# Altium footprint library PcbLib1.PcbLib: 23 footprints (part 1 of 2)
Each footprint in its own frame and in the unit in brackets; x right, y up, seen from the top. Pads: shape width x height; smd on the part's side, far side on the other; paste and mask are expansions set on the pad; w line width, h text height; cw(c..) or ccw(c..) is an arc to the next point about the centre after c.
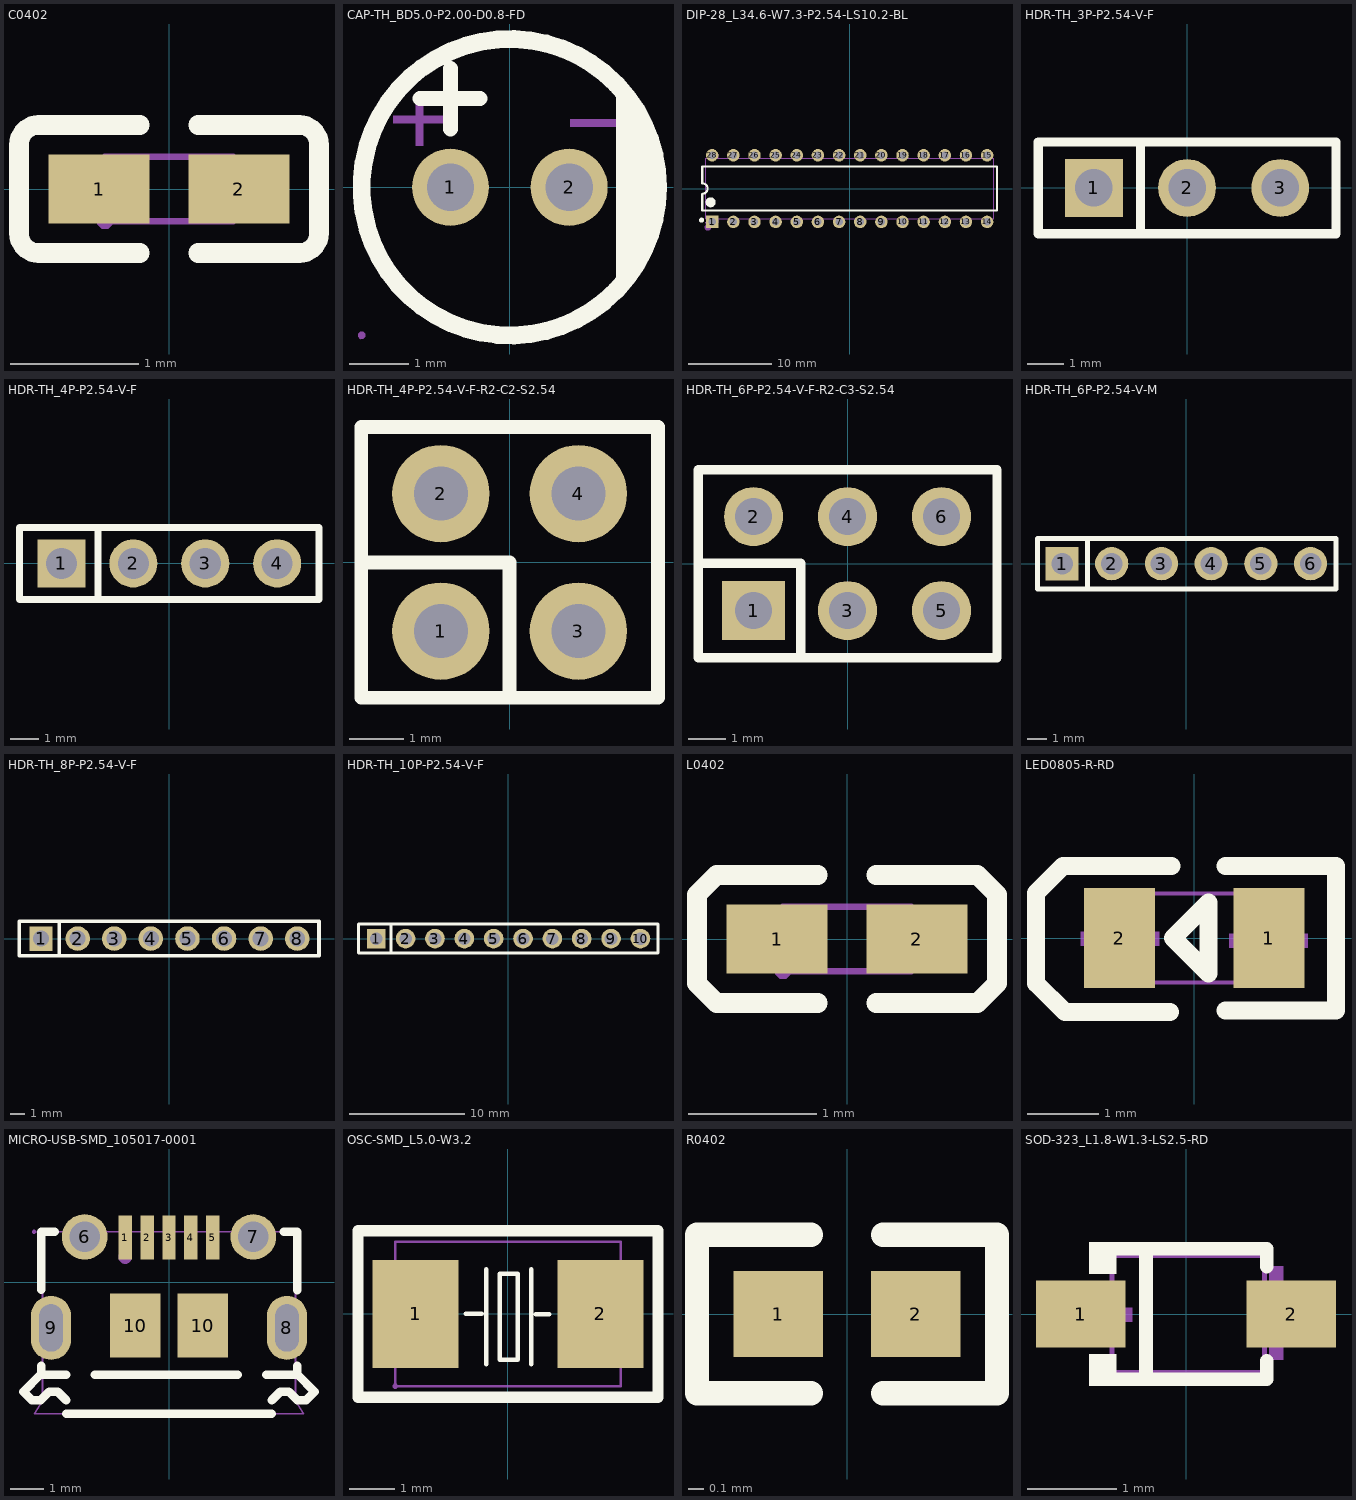
[diagram p0: the footprints below, top view; thin cyan lines are the x and y axes]

## C0402 [mm]
pads (2):
  rect 0.79x0.54 smd paste-100 mask+0.051: 1(-0.545,0) 2(0.545,0)
Top Overlay:
  lines w0.152: -0.226,-0.499 -1.016,-0.499 cw(c-1.016,-0.346) -1.169,-0.346 -1.169,0.346 cw(c-1.016,0.346) -1.016,0.499 -0.226,0.499 ; 0.226,-0.499 1.016,-0.499 ccw(c1.016,-0.346) 1.169,-0.346 1.169,0.346 ccw(c1.016,0.346) 1.016,0.499 0.226,0.499
Top Paste:
  region: -0.18,0.225 -0.18,-0.225 -0.25,-0.275 -0.73,-0.275 -0.78,-0.225 -0.78,0.225 -0.73,0.275 -0.25,0.275
  region: 0.78,0.225 0.78,-0.225 0.73,-0.275 0.25,-0.275 0.18,-0.225 0.18,0.225 0.25,0.275 0.73,0.275
Mechanical 15:
  region: -0.44,-0.25 -0.44,-0.225 -0.475,-0.19 -0.525,-0.19 -0.56,-0.225 -0.56,-0.25 -0.56,-0.275 -0.525,-0.31 -0.475,-0.31 -0.44,-0.275
  region: -0.5,-0.25 -0.5,0.25 -0.25,0.25 -0.25,-0.25
  region: 0.5,-0.25 0.5,0.25 0.25,0.25 0.25,-0.25
  lines w0.051: -0.5,-0.25 -0.5,0.25 0.5,0.25 0.5,-0.25 -0.5,-0.25

## CAP-TH_BD5.0-P2.00-D0.8-FD [mm]
pads (2):
  round 1.3 hole 0.8: 1(-1,0) 2(1,0)
Top Overlay:
  circle w0.3: c0,0 r2.5
  region: 1.794,1.651 1.961,1.491 2.225,1.111 2.407,0.685 2.5,0.231 2.5,-0.231 2.407,-0.685 2.225,-1.111 1.961,-1.491 1.794,-1.651
  lines w0.254: -1.516,1.5 -0.5,1.5 ; -1,0.984 -1,2
Mechanical 6:
  region: -1.969,1.206 -1.08,1.206 -1.08,1.079 -1.969,1.079
  region: -1.588,0.699 -1.588,1.587 -1.461,1.587 -1.46,0.699
  region: 1.016,1.143 1.905,1.143 1.905,1.016 1.016,1.016
Mechanical 15:
  region: -2.44,-2.5 -2.44,-2.475 -2.475,-2.44 -2.525,-2.44 -2.56,-2.475 -2.56,-2.5 -2.56,-2.525 -2.525,-2.56 -2.475,-2.56 -2.44,-2.525 -2.44,-2.5
  region: -0.7,0 -0.701,0.059 -0.748,0.167 -0.832,0.25 -0.941,0.294 -1.059,0.294 -1.168,0.25 -1.252,0.167 -1.299,0.059 -1.3,0 -1.299,-0.059 -1.252,-0.167 -1.168,-0.25 -1.059,-0.294 -0.941,-0.294 -0.832,-0.25 -0.748,-0.167 -0.701,-0.059 -0.7,0
  region: 1.3,0 1.299,0.059 1.252,0.167 1.168,0.25 1.059,0.294 0.941,0.294 0.832,0.25 0.748,0.167 0.701,0.059 0.7,0 0.701,-0.059 0.748,-0.167 0.832,-0.25 0.941,-0.294 1.059,-0.294 1.168,-0.25 1.252,-0.167 1.299,-0.059 1.3,0
  lines w0.051: 0,-2.5 cw(c0,0) -2.5,0 cw(c0,0) 0,2.5 cw(c0,0) 2.5,0 ; 0,-2.5 ccw(c0,0) 2.5,0 ; 0,-2.5 0,-2.5 ; 2.5,0 2.5,0

## DIP-28_L34.6-W7.3-P2.54-LS10.2-BL [mm]
pads (28):
  rect 1.5x1.5 hole 0.9: 1(-16.51,-4)
  round 1.5 hole 0.9: 2(-13.97,-4) 3(-11.43,-4) 4(-8.89,-4) 5(-6.35,-4) 6(-3.81,-4) 7(-1.27,-4) 8(1.27,-4) 9(3.81,-4) 10(6.35,-4) 11(8.89,-4) 12(11.43,-4) 13(13.97,-4) 14(16.51,-4) 15(16.51,4) 16(13.97,4) 17(11.43,4) 18(8.89,4) 19(6.35,4) 20(3.81,4) 21(1.27,4) 22(-1.27,4) 23(-3.81,4) 24(-6.35,4) 25(-8.89,4) 26(-11.43,4) 27(-13.97,4) 28(-16.51,4)
Top Overlay:
  lines w0.254: -17.701,-0.635 ccw(c-17.701,0) -17.701,0.635 ; -17.7,-0.635 -17.7,-2.65 17.7,-2.65 17.7,2.65 -17.7,2.65 -17.7,0.635
  lines w0.3: -17.94,-3.8 ccw(c-17.79,-3.799) -17.64,-3.799 ccw(c-17.79,-3.799) -17.94,-3.797
  lines w0.6: -17,-1.651 ccw(c-16.7,-1.648) -16.4,-1.648 ccw(c-16.7,-1.648) -17,-1.646
Mechanical 6:
  circle w0.4: c-17.026,-4.657 r0.2
Mechanical 15:
  drawing of 61 lines, arcs and shapes, not listed

## HDR-TH_3P-P2.54-V-F [mil]
pads (3):
  rect 62x62 hole 40.16: 1(-100,0)
  round 62 hole 40.16: 2(0,0) 3(100,0)
Top Overlay:
  lines w10: -50,-49.21 -50,49.21 ; -159.84,-49.21 -159.84,49.21 159.84,49.21 159.84,-49.21 -159.84,-49.21
Mechanical 15:
  region: 87.4,4.92 112.6,4.92 112.6,-4.92 87.4,-4.92
  region: -12.6,4.92 12.6,4.92 12.6,-4.92 -12.6,-4.92
  region: -112.6,4.92 -87.4,4.92 -87.4,-4.92 -112.6,-4.92
  region: -157.48,-49.21 -157.48,-48.23 -158.86,-46.85 -160.82,-46.85 -162.2,-48.24 -162.2,-49.22 -162.2,-50.19 -160.82,-51.58 -158.86,-51.58 -157.48,-50.19
  lines w2: -159.84,-49.21 159.84,-49.21 159.84,49.21 -159.84,49.21 -159.84,-49.21

## HDR-TH_4P-P2.54-V-F [mm]
pads (4):
  rect 1.7x1.7 hole 1.1: 1(-3.81,0)
  round 1.7 hole 1.1: 2(-1.27,0) 3(1.27,0) 4(3.81,0)
Top Overlay:
  lines w0.254: -2.516,-1.27 -2.516,1.27 ; -5.29,-1.27 -5.29,1.27 5.29,1.27 5.29,-1.27 -5.29,-1.27
Mechanical 15:
  region: -4.13,0.15 -3.49,0.15 -3.49,-0.15 -4.13,-0.15
  region: -1.59,0.15 -0.95,0.15 -0.95,-0.15 -1.59,-0.15
  region: 0.95,0.15 1.59,0.15 1.59,-0.15 0.95,-0.15
  region: 3.49,0.15 4.13,0.15 4.13,-0.15 3.49,-0.15
  region: -5.19,-1.25 -5.19,-1.225 -5.225,-1.19 -5.275,-1.19 -5.31,-1.225 -5.31,-1.25 -5.31,-1.275 -5.275,-1.31 -5.225,-1.31 -5.19,-1.275
  lines w0.051: -5.25,-1.25 -5.25,1.25 5.25,1.25 5.25,-1.25 -5.25,-1.25

## HDR-TH_4P-P2.54-V-F-R2-C2-S2.54 [mm]
pads (4):
  round 1.8 hole 1: 1(-1.27,-1.27) 2(-1.27,1.27) 3(1.27,-1.27) 4(1.27,1.27)
Top Overlay:
  lines w0.254: -2.667,0 0,0 0,-2.413 ; -2.74,-2.5 -2.74,2.5 2.74,2.5 2.74,-2.5 -2.74,-2.5
Mechanical 15:
  region: 0.95,1.47 1.59,1.47 1.59,1.07 0.95,1.07
  region: 0.95,-1.07 1.59,-1.07 1.59,-1.47 0.95,-1.47
  region: -1.59,1.47 -0.95,1.47 -0.95,1.07 -1.59,1.07
  region: -1.59,-1.07 -0.95,-1.07 -0.95,-1.47 -1.59,-1.47
  region: -2.68,-2.5 -2.68,-2.475 -2.715,-2.44 -2.765,-2.44 -2.8,-2.475 -2.8,-2.5 -2.8,-2.525 -2.765,-2.56 -2.715,-2.56 -2.68,-2.525
  lines w0.051: -2.74,-2.5 2.74,-2.5 2.74,2.5 -2.74,2.5 -2.74,-2.5

## HDR-TH_6P-P2.54-V-F-R2-C3-S2.54 [mm]
pads (6):
  rect 1.7x1.6 hole 1: 1(-2.54,-1.27)
  round 1.6 hole 1: 2(-2.54,1.27) 3(0,-1.27) 4(0,1.27) 5(2.54,-1.27) 6(2.54,1.27)
Top Overlay:
  lines w0.254: -4.04,0.007 -1.27,0.007 -1.27,-2.54 ; -4.04,-2.54 -4.04,2.54 4.04,2.54 4.04,-2.54 -4.04,-2.54
Mechanical 15:
  region: -2.86,-1.07 -2.22,-1.07 -2.22,-1.47 -2.86,-1.47
  region: -2.86,1.47 -2.22,1.47 -2.22,1.07 -2.86,1.07
  region: -0.32,-1.07 0.32,-1.07 0.32,-1.47 -0.32,-1.47
  region: -0.32,1.47 0.32,1.47 0.32,1.07 -0.32,1.07
  region: 2.22,-1.07 2.86,-1.07 2.86,-1.47 2.22,-1.47
  region: 2.22,1.47 2.86,1.47 2.86,1.07 2.22,1.07
  region: -3.95,-2.5 -3.95,-2.475 -3.985,-2.44 -4.035,-2.44 -4.07,-2.475 -4.07,-2.5 -4.07,-2.525 -4.035,-2.56 -3.985,-2.56 -3.95,-2.525
  lines w0.051: -4.01,-2.5 4.01,-2.5 4.01,2.5 -4.01,2.5 -4.01,-2.5

## HDR-TH_6P-P2.54-V-M [mm]
pads (6):
  rect 1.7x1.7 hole 1.1: 1(-6.35,0)
  round 1.7 hole 1.1: 2(-3.81,0) 3(-1.27,0) 4(1.27,0) 5(3.81,0) 6(6.35,0)
Top Overlay:
  lines w0.254: -5.056,-1.27 -5.056,1.27 ; -7.6,-1.3 -7.6,1.3 7.65,1.3 7.65,-1.3 -7.6,-1.3
Mechanical 15:
  region: -6.67,0.32 -6.03,0.32 -6.03,-0.32 -6.67,-0.32
  region: -4.13,0.32 -3.49,0.32 -3.49,-0.32 -4.13,-0.32
  region: -1.59,0.32 -0.95,0.32 -0.95,-0.32 -1.59,-0.32
  region: 0.95,0.32 1.59,0.32 1.59,-0.32 0.95,-0.32
  region: 3.49,0.32 4.13,0.32 4.13,-0.32 3.49,-0.32
  region: 6.03,0.32 6.67,0.32 6.67,-0.32 6.03,-0.32
  region: -7.56,-1.27 -7.56,-1.245 -7.595,-1.21 -7.645,-1.21 -7.68,-1.245 -7.68,-1.27 -7.68,-1.295 -7.645,-1.33 -7.595,-1.33 -7.56,-1.295
  lines w0.051: -7.62,-1.27 7.62,-1.27 7.62,1.27 -7.62,1.27 -7.62,-1.27

## HDR-TH_8P-P2.54-V-F [mm]
pads (8):
  rect 1.575x1.7 hole 1.1: 1(-8.89,0)
  round 1.7 hole 1.1: 2(-6.35,0) 3(-3.81,0) 4(-1.27,0) 5(1.27,0) 6(3.81,0) 7(6.35,0) 8(8.89,0)
Top Overlay:
  lines w0.254: -7.62,-1.143 -7.62,1.143 ; -10.4,-1.2 -10.4,1.2 10.4,1.2 10.4,-1.2 -10.4,-1.2
Mechanical 15:
  region: 8.59,0.2 9.19,0.2 9.19,-0.2 8.59,-0.2
  region: 6.05,0.2 6.65,0.2 6.65,-0.2 6.05,-0.2
  region: 3.51,0.2 4.11,0.2 4.11,-0.2 3.51,-0.2
  region: 0.97,0.2 1.57,0.2 1.57,-0.2 0.97,-0.2
  region: -1.57,0.2 -0.97,0.2 -0.97,-0.2 -1.57,-0.2
  region: -4.11,0.2 -3.51,0.2 -3.51,-0.2 -4.11,-0.2
  region: -6.65,0.2 -6.05,0.2 -6.05,-0.2 -6.65,-0.2
  region: -9.19,-0.2 -9.19,0.2 -8.59,0.2 -8.59,-0.2
  region: -10.3,-1.2 -10.3,-1.175 -10.335,-1.14 -10.385,-1.14 -10.42,-1.175 -10.42,-1.2 -10.42,-1.225 -10.385,-1.26 -10.335,-1.26 -10.3,-1.225
  lines w0.051: -10.36,-1.2 -10.36,1.2 10.36,1.2 10.36,-1.2 -10.36,-1.2

## HDR-TH_10P-P2.54-V-F [mm]
pads (10):
  rect 1.575x1.7 hole 1.1: 1(-11.43,0)
  round 1.7 hole 1.1: 2(-8.89,0) 3(-6.35,0) 4(-3.81,0) 5(-1.27,0) 6(1.27,0) 7(3.81,0) 8(6.35,0) 9(8.89,0) 10(11.43,0)
Top Overlay:
  lines w0.254: -10.16,-1.25 -10.16,1.25 ; -12.95,-1.25 -12.95,1.25 12.95,1.25 12.95,-1.25 -12.95,-1.25
Mechanical 15:
  region: 11.11,0.2 11.75,0.2 11.75,-0.2 11.11,-0.2
  region: 8.57,0.2 9.21,0.2 9.21,-0.2 8.57,-0.2
  region: 6.03,0.2 6.67,0.2 6.67,-0.2 6.03,-0.2
  region: 3.49,0.2 4.13,0.2 4.13,-0.2 3.49,-0.2
  region: 0.95,0.2 1.59,0.2 1.59,-0.2 0.95,-0.2
  region: -1.59,0.2 -0.95,0.2 -0.95,-0.2 -1.59,-0.2
  region: -4.13,0.2 -3.49,0.2 -3.49,-0.2 -4.13,-0.2
  region: -6.67,0.2 -6.03,0.2 -6.03,-0.2 -6.67,-0.2
  region: -9.21,0.2 -8.57,0.2 -8.57,-0.2 -9.21,-0.2
  region: -11.75,-0.2 -11.75,0.2 -11.11,0.2 -11.11,-0.2
  region: -12.89,-1.25 -12.89,-1.225 -12.925,-1.19 -12.975,-1.19 -13.01,-1.225 -13.01,-1.25 -13.01,-1.275 -12.975,-1.31 -12.925,-1.31 -12.89,-1.275
  lines w0.051: -12.95,-1.25 12.95,-1.25 12.95,1.25 -12.95,1.25 -12.95,-1.25

## L0402 [mm]
pads (2):
  rect 0.79x0.54 smd paste-100 mask+0.051: 1(-0.545,0) 2(0.545,0)
Top Overlay:
  lines w0.152: -0.226,-0.499 -1.016,-0.499 -1.169,-0.346 -1.169,0.346 -1.016,0.499 -0.226,0.499 ; 0.226,-0.499 1.016,-0.499 1.169,-0.346 1.169,0.346 1.016,0.499 0.226,0.499
Top Paste:
  region: -0.135,-0.086 -0.135,0.086 -0.404,0.27 -0.9,0.27 -0.94,0.23 -0.94,-0.23 -0.9,-0.27 -0.404,-0.27
  region: 0.135,-0.086 0.135,0.086 0.404,0.27 0.9,0.27 0.94,0.23 0.94,-0.23 0.9,-0.27 0.404,-0.27
Mechanical 15:
  region: 0.5,-0.25 0.5,0.25 0.25,0.25 0.25,-0.25
  region: -0.5,-0.25 -0.5,0.25 -0.25,0.25 -0.25,-0.25
  region: -0.44,-0.25 -0.44,-0.225 -0.475,-0.19 -0.525,-0.19 -0.56,-0.225 -0.56,-0.25 -0.56,-0.275 -0.525,-0.31 -0.475,-0.31 -0.44,-0.275
  lines w0.051: -0.5,-0.25 0.5,-0.25 0.5,0.25 -0.5,0.25 -0.5,-0.25

## LED0805-R-RD [mm]
pads (2):
  rect 1x1.4 smd: 1(1.05,0) 2(-1.05,0)
Top Overlay:
  lines w0.254: -0.344,-1.043 -1.817,-1.043 -2.224,-0.636 -2.224,0.634 -1.843,1.015 -0.319,1.015 ; 0.443,-1.017 1.993,-1.017 1.993,1.015 0.443,1.015 ; -0.3,0 -0.2,-0.1 0.2,-0.5 0.2,0.5 -0.2,0.1 -0.3,0
Mechanical 6:
  region: -0.494,-0.109 -1.594,-0.109 -1.594,0.091 -0.494,0.091
  region: 0.494,0.06 1.594,0.06 1.594,-0.14 0.494,-0.14
  region: 0.941,-0.556 0.941,0.544 1.141,0.544 1.141,-0.556
Mechanical 15:
  region: -0.6,-0.625 -1,-0.625 -1,0.625 -0.6,0.625
  region: 1,-0.625 0.6,-0.625 0.6,0.625 1,0.625
  region: 1.06,0.625 1.059,0.65 1.024,0.684 0.976,0.684 0.941,0.65 0.94,0.625 0.941,0.601 0.976,0.566 1.024,0.566 1.059,0.601
  lines w0.051: -1,-0.625 1,-0.625 1,0.625 -1,0.625 -1,-0.625

## MICRO-USB-SMD_105017-0001 [mm]
pads (11):
  rect 0.4x1.3 smd paste-100 mask+0.051: 1(-1.3,1.33) 2(-0.65,1.33) 3(0,1.33) 4(0.65,1.33) 5(1.3,1.33)
  round 1.35 hole 0.9: 6(-2.5,1.35) 7(2.5,1.35)
  oval 1.2x1.9 hole 0.7 slot 1.4 at 90 deg: 8(3.5,-1.35) 9(-3.5,-1.35)
  rect 1.5x1.9 smd paste-100 mask+0.051: 10(-1,-1.28) 10(1,-1.28)
Top Overlay:
  lines w0.254: -3.79,-2.734 -3.79,-2.479 ; -3.79,-0.221 -3.79,1.5 -3.389,1.5 ; -3.048,-3.9 3.048,-3.9 ; -3.048,-3.496 -3.302,-3.242 -3.556,-3.242 -3.81,-3.496 -4.064,-3.496 -4.318,-3.242 -3.81,-2.734 -3.048,-2.734 ; -2.2,-2.734 2.032,-2.734 ; 2.88,-2.734 3.81,-2.734 ; 3.048,-3.496 3.302,-3.242 3.556,-3.242 3.81,-3.496 4.064,-3.496 4.318,-3.242 3.81,-2.734 ; 3.4,1.5 3.81,1.5 3.81,-0.229 ; 3.81,-2.471 3.81,-2.734
Top Paste:
  circle w0.675: c2.5,1.35 r0.338
  circle w0.675: c-2.5,1.35 r0.338
  region: -1.75,-0.33 -0.25,-0.33 -0.25,-2.23 -1.75,-2.23
  region: 0.25,-0.33 1.75,-0.33 1.75,-2.23 0.25,-2.23
  region: -1.499,1.98 -1.1,1.98 -1.1,0.679 -1.499,0.679
  region: -0.85,1.98 -0.449,1.98 -0.449,0.679 -0.85,0.679
  region: -0.199,1.98 0.2,1.98 0.2,0.68 -0.199,0.68
  region: 0.45,1.98 0.851,1.98 0.851,0.679 0.45,0.679
  region: 1.1,1.98 1.502,1.98 1.502,0.679 1.1,0.679
  region: -4.1,-1 -4.099,-0.881 -4.007,-0.662 -3.838,-0.495 -3.619,-0.404 -3.381,-0.404 -3.161,-0.495 -2.993,-0.662 -2.901,-0.881 -2.9,-1 -2.9,-1.7 -2.901,-1.819 -2.993,-2.038 -3.161,-2.206 -3.381,-2.296 -3.619,-2.296 -3.838,-2.206 -4.007,-2.038 -4.099,-1.819 -4.1,-1.7
  region: 2.901,-1 2.901,-0.881 2.992,-0.66 3.161,-0.491 3.381,-0.4 3.62,-0.4 3.84,-0.491 4.009,-0.66 4.1,-0.881 4.1,-1 4.1,-1.7 4.1,-1.82 4.009,-2.04 3.84,-2.209 3.62,-2.3 3.381,-2.3 3.161,-2.209 2.992,-2.04 2.901,-1.82 2.901,-1.7
Mechanical 6:
  circle w0.2: c-1.3,0.75 r0.1
Mechanical 15:
  region: -1.425,1.5 -1.175,1.5 -1.175,0.7 -1.425,0.7
  region: -0.775,1.5 -0.525,1.5 -0.525,0.7 -0.775,0.7
  region: 1.176,1.5 1.426,1.5 1.426,0.7 1.176,0.7
  region: 0.525,1.5 0.775,1.5 0.775,0.7 0.525,0.7
  region: -3.65,-0.9 -3.35,-0.9 -3.35,-1.8 -3.65,-1.8
  region: 3.35,-0.9 3.65,-0.9 3.65,-1.8 3.35,-1.8
  region: -2.8,1.5 -2.2,1.5 -2.2,1.2 -2.8,1.2
  region: 2.2,1.5 2.8,1.5 2.8,1.2 2.2,1.2
  region: 0.35,-0.43 1.65,-0.43 1.65,-2.13 0.35,-2.13
  region: -1.65,-0.43 -0.35,-0.43 -0.35,-2.13 -1.65,-2.13
  region: -0.125,1.5 0.125,1.5 0.125,0.7 -0.125,0.7
  region: -3.94,1.5 -3.941,1.525 -3.975,1.559 -4.024,1.559 -4.059,1.525 -4.06,1.5 -4.059,1.476 -4.024,1.441 -3.975,1.441 -3.941,1.476
  lines w0.051: -4,-3.9 4,-3.9 3.75,-3.5 3.75,1.5 -3.75,1.5 -3.75,-3.5 -4,-3.9

## OSC-SMD_L5.0-W3.2 [mm]
pads (2):
  rect 1.9x2.4 smd: 1(-2.05,0) 2(2.05,0)
Top Overlay:
  lines w0.1: -0.94,0 -0.584,0 ; -0.483,-1.109 -0.483,0.991 ; 0.517,-1.109 0.517,0.991 ; 0.617,-0.009 0.917,-0.009 ; -0.183,-1.009 0.217,-1.009 0.217,0.89 -0.183,0.89 -0.183,-1.009
  lines w0.254: -3.325,-1.85 -3.325,-0.7 -3.325,0.7 -3.325,1.85 3.325,1.85 3.325,0.7 3.325,-0.7 3.325,-1.85 -3.325,-1.85
Mechanical 15:
  region: -1.2,1 -1.2,-1 -2.5,-1 -2.5,1
  region: 2.5,1 2.5,-1 1.2,-1 1.2,1
  region: -2.44,-1.6 -2.44,-1.575 -2.475,-1.54 -2.525,-1.54 -2.56,-1.575 -2.56,-1.6 -2.56,-1.625 -2.525,-1.66 -2.475,-1.66 -2.44,-1.625
  lines w0.051: -2.5,-1.6 2.5,-1.6 2.5,1.6 -2.5,1.6 -2.5,-1.6

## R0402 [mm]
pads (2):
  rect 0.566x0.54 smd paste-100 mask+0.051: 1(-0.433,0) 2(0.433,0)
Top Overlay:
  lines w0.152: -0.226,-0.499 -0.944,-0.499 -0.944,0.499 -0.226,0.499 ; 0.226,-0.499 0.944,-0.499 0.944,0.499 0.226,0.499
Top Paste:
  region: -0.135,-0.23 -0.135,0.23 -0.175,0.27 -0.676,0.27 -0.716,0.23 -0.716,-0.23 -0.676,-0.27 -0.175,-0.27
  region: 0.135,-0.23 0.135,0.23 0.175,0.27 0.676,0.27 0.716,0.23 0.716,-0.23 0.676,-0.27 0.175,-0.27

## SOD-323_L1.8-W1.3-LS2.5-RD [mm]
pads (2):
  rect 1x0.75 smd: 1(-1.173,0) 2(1.173,0)
Top Overlay:
  region: -0.775,-0.802 -0.775,-0.45 -1.08,-0.45 -1.08,-0.802
  region: -0.775,0.802 -0.775,0.45 -1.08,0.45 -1.08,0.802
  lines w0.152: -0.851,-0.726 0.901,-0.726 0.901,-0.52 ; -0.851,0.726 0.901,0.726 0.901,0.53 ; -0.447,-0.726 -0.447,0.726
Mechanical 6:
  region: 1.083,0.53 1.083,-0.51 0.927,-0.51 0.927,0.53
  region: 1.315,0.09 1.315,-0.066 0.691,-0.066 0.691,0.09
  region: -1.225,0.07 -1.225,-0.086 -0.601,-0.086 -0.601,0.07
Mechanical 15:
  region: -0.815,0.16 -0.815,-0.16 -0.935,-0.16 -0.935,0.16
  region: -0.925,0.16 -0.925,-0.16 -1.225,-0.16 -1.225,0.16
  region: 0.985,0.16 0.985,-0.16 0.865,-0.16 0.865,0.16
  region: 1.275,0.16 1.275,-0.16 0.975,-0.16 0.975,0.16
  lines w0.051: -0.825,-0.65 -0.825,0.65 0.875,0.65 0.875,-0.65 -0.825,-0.65